# Altium footprint library CDH_COMPONENTS_FOOTPRINTS.PcbLib: 15 footprints
Each footprint in its own frame and in the unit in brackets; x right, y up, seen from the top. Pads: shape width x height; smd on the part's side, far side on the other; paste and mask are expansions set on the pad; w line width, h text height; cw(c..) or ccw(c..) is an arc to the next point about the centre after c.
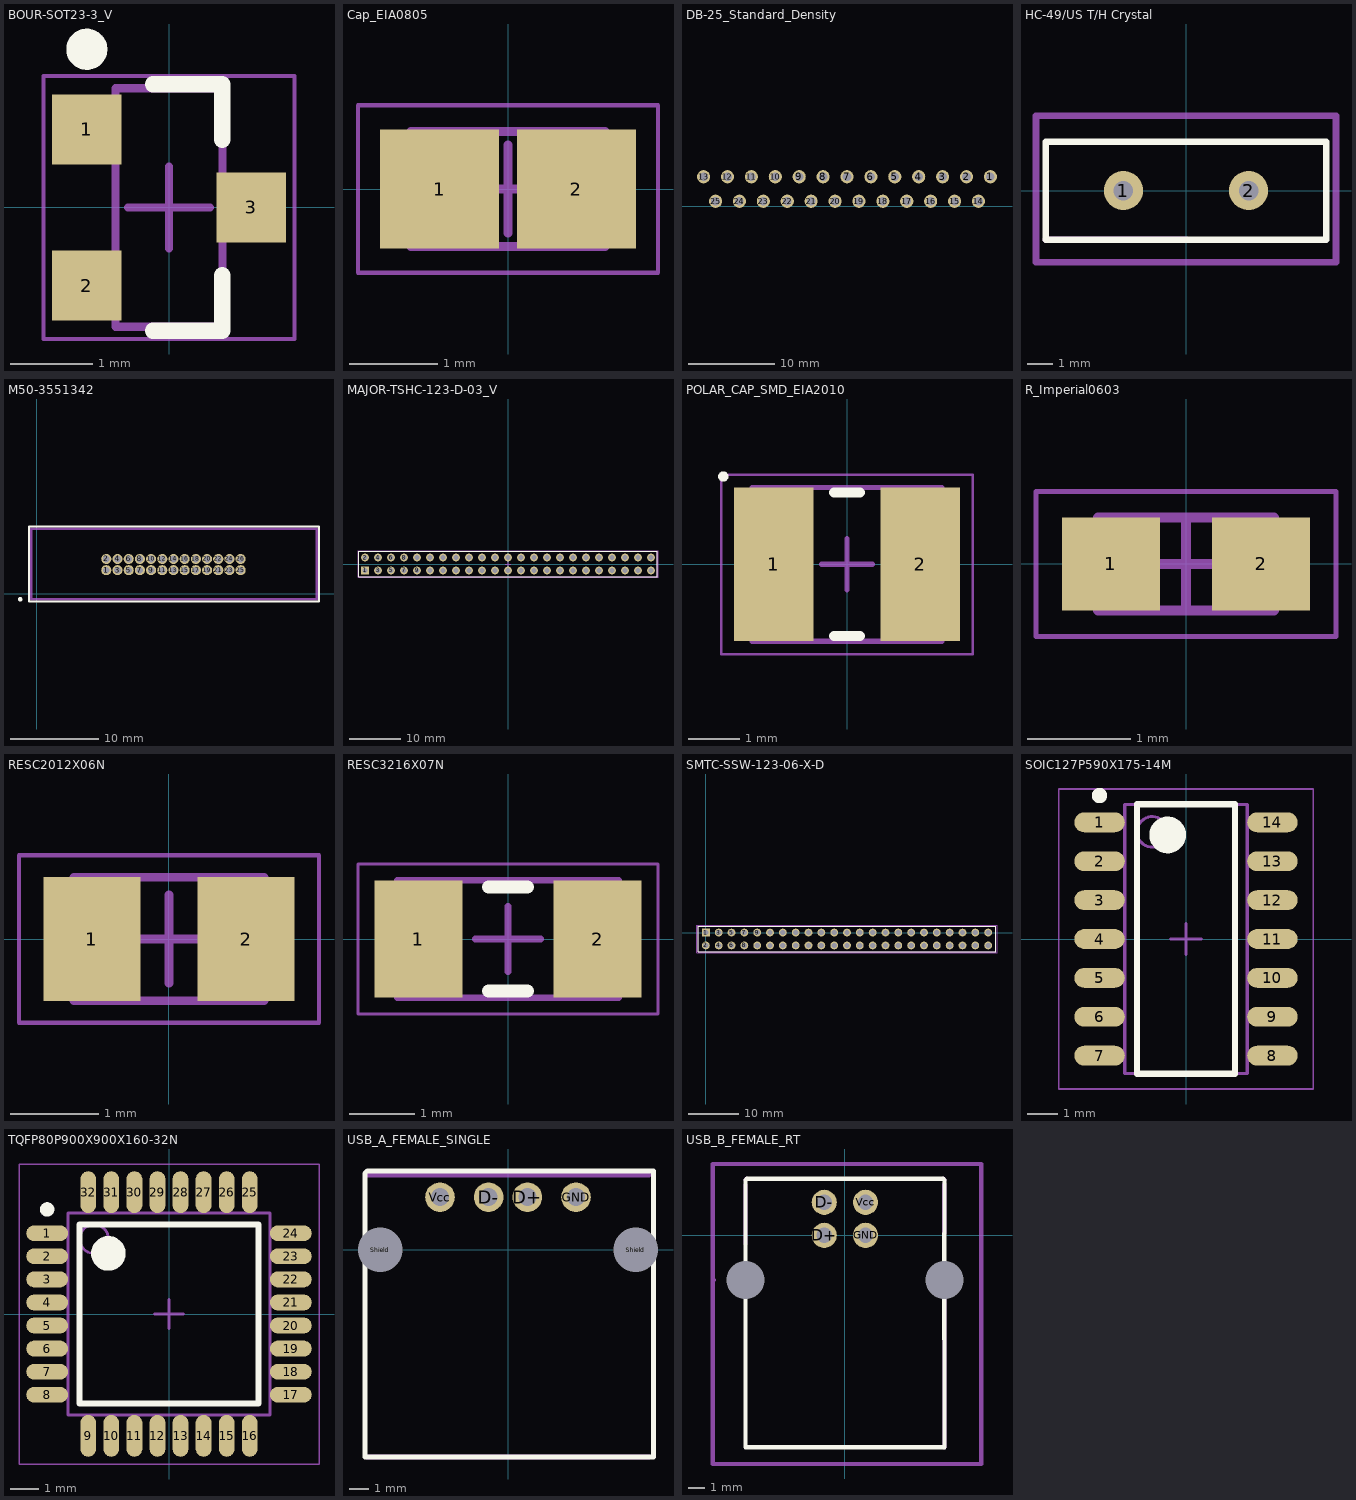
[diagram p0: the footprints below, top view; thin cyan lines are the x and y axes]

## BOUR-SOT23-3_V [mm] "SOT23, 3-Leads, Body 2.9x1.3mm, Pitch 0.95mm"
height 1.17
pads (3):
  rect 0.85x0.85 smd: 1(-1,0.95) 2(-1,-0.95) 3(1,0)
Top Overlay:
  circle w0.25: c-1,1.925 r0.125
  lines w0.2: -0.195,-1.5 0.65,-1.5 0.65,-0.825 ; -0.195,1.5 0.65,1.5 0.65,0.825
Dimensions:
  lines w0.1: -0.65,-1.45 0.65,-1.45 0.65,1.45 -0.65,1.45 -0.65,-1.45
Mechanical 15:
  lines w0.05: -1.525,-1.6 1.525,-1.6 1.525,1.6 -1.525,1.6 -1.525,-1.6
  lines w0.1: -0.5,0 0.5,0 ; 0,-0.5 0,0.5
3D body: height 1.17, standoff 0.02, extent -0.65,-1.45 0.65,1.45

## Cap_EIA0805 [mm] "Chip Capacitor, 2-Leads, Body 2.00x1.23mm, IPC Medium Density"
height 0.85
pads (2):
  rect 1.35x1.35 smd: 1(-0.775,0) 2(0.775,0)
Dimensions:
  lines w0.1: -1.1,-0.65 -1.1,0.65 1.1,0.65 1.1,-0.65 -1.1,-0.65
Mechanical 15:
  lines w0.05: -1.7,-0.95 -1.7,0.95 1.7,0.95 1.7,-0.95 -1.7,-0.95
  lines w0.1: -0.5,0 0.5,0 ; 0,-0.5 0,0.5
3D body: height 0.85, standoff 0, extent -0.6,-0.65 0.6,0.65
3D body: height 0.85, standoff 0, extent -1.1,-0.65 -0.6,0.65
3D body: height 0.85, standoff 0, extent 0.6,-0.65 1.1,0.65

## DB-25_Standard_Density [mm] "Right angle DB-25 standard density connector"
pads (25):
  round 1.524 hole 1: 1(43.14,3.42) 2(40.37,3.42) 3(37.6,3.42) 4(34.83,3.42) 5(32.06,3.42) 6(29.29,3.42) 7(26.52,3.42) 8(23.75,3.42) 9(20.98,3.42) 10(18.21,3.42) 11(15.44,3.42) 12(12.67,3.42) 13(9.9,3.42) 14(41.755,0.58) 15(38.985,0.58) 16(36.215,0.58) 17(33.445,0.58) 18(30.675,0.58) 19(27.905,0.58) 20(25.135,0.58) 21(22.365,0.58) 22(19.595,0.58) 23(16.825,0.58) 24(14.055,0.58) 25(11.285,0.58)

## HC-49/US T/H Crystal [mil]
height 144.88
pads (2):
  round 60 hole 30: 1(-96.06,0) 2(96.06,0)
Top Overlay:
  lines w10: -215,-75 -215,75 215,75 215,-75 0,-75 -215,-75
Dimensions:
  lines w10: -215,-75 0,-75
Mechanical 15:
  lines w10: -230,-110 230,-110 230,115 -215,115 -230,115 -230,-110
3D body "Crystal_HC49-4H_Vertical.step": height 161.42, standoff -114.17, extent -217.52,-91.54 217.52,91.54

## M50-3551342 [mm] "EJT 13x2 socket"
pads (26):
  round 1.15 hole 0.75: 1(7.874,2.667) 2(7.874,3.937)
  round 1.15 hole 0.75 paste+0: 3(9.144,2.667) 4(9.144,3.937) 5(10.414,2.667) 6(10.414,3.937) 7(11.684,2.667) 8(11.684,3.937) 9(12.954,2.667) 10(12.954,3.937) 11(14.224,2.667) 12(14.224,3.937) 13(15.494,2.667) 14(15.494,3.937) 15(16.764,2.667) 16(16.764,3.937) 17(18.034,2.667) 18(18.034,3.937) 19(19.304,2.667) 20(19.304,3.937) 21(20.574,2.667) 22(20.574,3.937) 23(21.844,2.667) 24(21.844,3.937) 25(23.114,2.667) 26(23.114,3.937)
Top Overlay:
  circle w0.254: c-1.905,-0.635 r0.127
  lines w0.254: -0.889,-0.889 32.004,-0.889 32.004,7.62 -0.889,7.62 -0.889,-0.889
Mechanical 15:
  lines w0.254: -0.635,-0.635 31.75,-0.635 31.75,7.366 -0.635,7.366 -0.635,-0.635
3D body "m50-3551342_asm.stp": height 11.37, standoff -2.65, extent 0,0.01 30.99,6.68

## MAJOR-TSHC-123-D-03_V [mm] "CONN, 46-Leads, Body 58.42x5mm, Pitch 2.54mm"
height 6.22
pads (46):
  rect 1.55x1.55 hole 1.02 paste+0: 1(-27.94,-1.27)
  round 1.55 hole 1.02 paste+0: 2(-27.94,1.27) 3(-25.4,-1.27) 4(-25.4,1.27) 5(-22.86,-1.27) 6(-22.86,1.27) 7(-20.32,-1.27) 8(-20.32,1.27) 9(-17.78,-1.27) 10(-17.78,1.27) 11(-15.24,-1.27) 12(-15.24,1.27) 13(-12.7,-1.27) 14(-12.7,1.27) 15(-10.16,-1.27) 16(-10.16,1.27) 17(-7.62,-1.27) 18(-7.62,1.27) 19(-5.08,-1.27) 20(-5.08,1.27) 21(-2.54,-1.27) 22(-2.54,1.27) 23(0,-1.27) 24(0,1.27) 25(2.54,-1.27) 26(2.54,1.27) 27(5.08,-1.27) 28(5.08,1.27) 29(7.62,-1.27) 30(7.62,1.27) 31(10.16,-1.27) 32(10.16,1.27) 33(12.7,-1.27) 34(12.7,1.27) 35(15.24,-1.27) 36(15.24,1.27) 37(17.78,-1.27) 38(17.78,1.27) 39(20.32,-1.27) 40(20.32,1.27) 41(22.86,-1.27) 42(22.86,1.27) 43(25.4,-1.27) 44(25.4,1.27) 45(27.94,-1.27) 46(27.94,1.27)
Top Overlay:
  lines w0.2: -29.21,-2.5 -29.21,2.5 29.21,2.5 29.21,-2.5 -29.21,-2.5
Dimensions:
  lines w0.1: -29.21,-2.5 -29.21,2.5 29.21,2.5 29.21,-2.5 -29.21,-2.5
Mechanical 15:
  lines w0.05: -29.31,-2.6 29.31,-2.6 29.31,2.6 -29.31,2.6 -29.31,-2.6
  lines w0.1: -0.5,0 0.5,0 ; 0,-0.5 0,0.5
3D body: height 8.51, standoff -2.29, extent 27.62,0.95 28.26,1.59
3D body: height 8.51, standoff -2.29, extent 25.08,0.95 25.72,1.59
3D body: height 8.51, standoff -2.29, extent 22.54,0.95 23.18,1.59
3D body: height 8.51, standoff -2.29, extent 20,0.95 20.64,1.59
3D body: height 8.51, standoff -2.29, extent 17.46,0.95 18.1,1.59
3D body: height 8.51, standoff -2.29, extent 14.92,0.95 15.56,1.59
3D body: height 8.51, standoff -2.29, extent 12.38,0.95 13.02,1.59
3D body: height 8.51, standoff -2.29, extent 9.84,0.95 10.48,1.59
3D body: height 8.51, standoff -2.29, extent 7.3,0.95 7.94,1.59
3D body: height 8.51, standoff -2.29, extent 4.76,0.95 5.4,1.59
3D body: height 8.51, standoff -2.29, extent 2.22,0.95 2.86,1.59
3D body: height 8.51, standoff -2.29, extent -0.32,0.95 0.32,1.59
3D body: height 8.51, standoff -2.29, extent -2.86,0.95 -2.22,1.59
3D body: height 8.51, standoff -2.29, extent -5.4,0.95 -4.76,1.59
3D body: height 8.51, standoff -2.29, extent -7.94,0.95 -7.3,1.59
3D body: height 8.51, standoff -2.29, extent -10.48,0.95 -9.84,1.59
3D body: height 8.51, standoff -2.29, extent -13.02,0.95 -12.38,1.59
3D body: height 8.51, standoff -2.29, extent -15.56,0.95 -14.92,1.59
3D body: height 8.51, standoff -2.29, extent -18.1,0.95 -17.46,1.59
3D body: height 8.51, standoff -2.29, extent -20.64,0.95 -20,1.59
3D body: height 8.51, standoff -2.29, extent -23.18,0.95 -22.54,1.59
3D body: height 8.51, standoff -2.29, extent -25.72,0.95 -25.08,1.59
3D body: height 8.51, standoff -2.29, extent 27.62,-1.59 28.26,-0.95
3D body: height 8.51, standoff -2.29, extent 25.08,-1.59 25.72,-0.95
3D body: height 8.51, standoff -2.29, extent 22.54,-1.59 23.18,-0.95
3D body: height 8.51, standoff -2.29, extent 20,-1.59 20.64,-0.95
3D body: height 8.51, standoff -2.29, extent 17.46,-1.59 18.1,-0.95
3D body: height 8.51, standoff -2.29, extent 14.92,-1.59 15.56,-0.95
3D body: height 8.51, standoff -2.29, extent 12.38,-1.59 13.02,-0.95
3D body: height 8.51, standoff -2.29, extent 9.84,-1.59 10.48,-0.95
3D body: height 8.51, standoff -2.29, extent 7.3,-1.59 7.94,-0.95
3D body: height 8.51, standoff -2.29, extent 4.76,-1.59 5.4,-0.95
3D body: height 8.51, standoff -2.29, extent 2.22,-1.59 2.86,-0.95
3D body: height 8.51, standoff -2.29, extent -0.32,-1.59 0.32,-0.95
3D body: height 8.51, standoff -2.29, extent -2.86,-1.59 -2.22,-0.95
3D body: height 8.51, standoff -2.29, extent -5.4,-1.59 -4.76,-0.95
3D body: height 8.51, standoff -2.29, extent -7.94,-1.59 -7.3,-0.95
3D body: height 8.51, standoff -2.29, extent -10.48,-1.59 -9.84,-0.95
3D body: height 8.51, standoff -2.29, extent -13.02,-1.59 -12.38,-0.95
3D body: height 8.51, standoff -2.29, extent -15.56,-1.59 -14.92,-0.95
3D body: height 8.51, standoff -2.29, extent -18.1,-1.59 -17.46,-0.95
3D body: height 8.51, standoff -2.29, extent -20.64,-1.59 -20,-0.95
3D body: height 8.51, standoff -2.29, extent -23.18,-1.59 -22.54,-0.95
3D body: height 8.51, standoff -2.29, extent -25.72,-1.59 -25.08,-0.95
3D body: height 8.51, standoff -2.29, extent -28.26,-1.59 -27.62,-0.95
3D body: height 8.51, standoff -2.29, extent -28.26,0.95 -27.62,1.59
3D body: height 2.54, standoff 0, extent -29.21,-2.5 29.21,2.5

## POLAR_CAP_SMD_EIA2010 [mm] "Polarized SMT capacitor, Imperial 2010 footprint"
height 1.1
pads (2):
  rect 1.55x3 smd: 1(-1.425,0) 2(1.425,0)
Top Overlay:
  circle w0.1: c-2.412,1.712 r0.05
  lines w0.2: -0.25,-1.4 0.25,-1.4 ; -0.25,1.4 0.25,1.4
Dimensions:
  lines w0.1: -1.85,-1.5 -1.85,1.5 1.85,1.5 1.85,-1.5 -1.85,-1.5
Mechanical 15:
  lines w0.05: -2.45,-1.75 -2.45,1.75 2.45,1.75 2.45,-1.75 -2.45,-1.75
  lines w0.1: -0.5,0 0.5,0 ; 0,-0.5 0,0.5
3D body "POLAR_CAP_SMD_EIA2010.step": height 1.1, standoff 0, extent -1.85,-1.5 1.85,1.5

## R_Imperial0603 [mm] "Imperial 0603 resistor footprint"
height 0.55
pads (2):
  rect 0.95x0.9 smd: 1(-0.725,0) 2(0.725,0)
Dimensions:
  lines w0.1: -0.85,-0.45 -0.85,0.45 0.85,0.45 0.85,-0.45 -0.85,-0.45
Mechanical 15:
  lines w0.05: -1.45,-0.7 -1.45,0.7 1.45,0.7 1.45,-0.7 -1.45,-0.7
  lines w0.1: -0.45,0 0.45,0 ; 0,-0.45 0,0.45
3D body "R_Imperial0603.step": height 0.55, standoff 0, extent -0.85,-0.45 0.85,0.45

## RESC2012X06N [mm] "Chip Resistor, 2-Leads, Body 2.00x1.25mm, IPC Medium Density"
height 0.6
pads (2):
  rect 1.1x1.4 smd: 1(-0.875,0) 2(0.875,0)
Dimensions:
  lines w0.1: -1.075,-0.7 -1.075,0.7 1.075,0.7 1.075,-0.7 -1.075,-0.7
Mechanical 15:
  lines w0.05: -1.7,-0.95 -1.7,0.95 1.7,0.95 1.7,-0.95 -1.7,-0.95
  lines w0.1: -0.5,0 0.5,0 ; 0,-0.5 0,0.5
3D body "RESC2012X06N.step": height 0.6, standoff 0, extent -1.075,-0.7 1.075,0.7

## RESC3216X07N [mm] "Chip Resistor, 2-Leads, Body 3.20x1.60mm, IPC Medium Density"
height 0.7
pads (2):
  rect 1.35x1.8 smd: 1(-1.375,0) 2(1.375,0)
Top Overlay:
  lines w0.2: -0.3,-0.8 0.3,-0.8 ; -0.3,0.8 0.3,0.8
Dimensions:
  lines w0.1: -1.7,-0.9 1.7,-0.9 1.7,0.9 -1.7,0.9 -1.7,-0.9
Mechanical 15:
  lines w0.05: -2.3,-1.15 2.3,-1.15 2.3,1.15 -2.3,1.15 -2.3,-1.15
  lines w0.1: -0.5,0 0.5,0 ; 0,-0.5 0,0.5
3D body "RESC3216X07N.step": height 0.7, standoff 0, extent -1.7,-0.9 1.7,0.9

## SMTC-SSW-123-06-X-D [mm] "SQ Post Socket, 2x23 Pins, Vertical, 2.54mm Pitch, Female"
height 8.51
pads (46):
  rect 1.55x1.55 hole 1.04: 1(0,0)
  round 1.55 hole 1.04: 2(0,-2.54) 3(2.54,0) 4(2.54,-2.54) 5(5.08,0) 6(5.08,-2.54) 7(7.62,0) 8(7.62,-2.54) 9(10.16,0) 10(10.16,-2.54) 11(12.7,0) 12(12.7,-2.54) 13(15.24,0) 14(15.24,-2.54) 15(17.78,0) 16(17.78,-2.54) 17(20.32,0) 18(20.32,-2.54) 19(22.86,0) 20(22.86,-2.54) 21(25.4,0) 22(25.4,-2.54) 23(27.94,0) 24(27.94,-2.54) 25(30.48,0) 26(30.48,-2.54) 27(33.02,0) 28(33.02,-2.54) 29(35.56,0) 30(35.56,-2.54) 31(38.1,0) 32(38.1,-2.54) 33(40.64,0) 34(40.64,-2.54) 35(43.18,0) 36(43.18,-2.54) 37(45.72,0) 38(45.72,-2.54) 39(48.26,0) 40(48.26,-2.54) 41(50.8,0) 42(50.8,-2.54) 43(53.34,0) 44(53.34,-2.54) 45(55.88,0) 46(55.88,-2.54)
Top Overlay:
  lines w0.2: -1.525,-3.745 57.405,-3.745 57.405,1.205 -1.525,1.205 -1.525,-3.745
Dimensions:
  lines w0.1: -1.525,-3.745 57.405,-3.745 57.405,1.205 -1.525,1.205 -1.525,-3.745
Mechanical 15:
  lines w0.05: -1.75,-3.97 57.63,-3.97 57.63,1.43 -1.75,1.43 -1.75,-3.97
3D body "SSW-123-06-X-D.step": height 8.51, standoff -3.15, extent -1.524,-3.746 57.404,1.207

## SOIC127P590X175-14M [mm] "SOIC, 14-Leads, Body 8.65x3.90mm, Pitch 1.27mm, IPC Low Density"
height 1.75
pads (14):
  oval 1.65x0.65 smd: 1(-2.825,3.81) 2(-2.825,2.54) 3(-2.825,1.27) 4(-2.825,0) 5(-2.825,-1.27) 6(-2.825,-2.54) 7(-2.825,-3.81) 8(2.825,-3.81) 9(2.825,-2.54) 10(2.825,-1.27) 11(2.825,0) 12(2.825,1.27) 13(2.825,2.54) 14(2.825,3.81)
Top Overlay:
  circle w0.25: c-2.825,4.685 r0.125
  circle w0.6: c-0.6,3.4 r0.3
  lines w0.2: -1.6,-4.4 -1.6,4.4 1.6,4.4 1.6,-4.4 -1.6,-4.4
Dimensions:
  circle w0.1: c-1.1,3.5 r0.5
  lines w0.1: -2,-4.4 -2,4.4 2,4.4 2,-4.4 -2,-4.4
Mechanical 15:
  lines w0.05: -4.15,-4.9 -4.15,4.9 4.15,4.9 4.15,-4.9 -4.15,-4.9
  lines w0.1: -0.5,0 0.5,0 ; 0,-0.5 0,0.5
3D body "SOIC127P590X175-14M.step": height 1.75, standoff 0, extent -2.95,-4.4 2.95,4.4

## TQFP80P900X900X160-32N [mm] "TQFP, 32-Leads, Body 7.00x7.00mm, Pitch 0.80mm, IPC Medium Density"
height 1.6
pads (32):
  oval 1.45x0.55 smd: 1(-4.225,2.8) 2(-4.225,2) 3(-4.225,1.2) 4(-4.225,0.4) 5(-4.225,-0.4) 6(-4.225,-1.2) 7(-4.225,-2) 8(-4.225,-2.8) 17(4.225,-2.8) 18(4.225,-2) 19(4.225,-1.2) 20(4.225,-0.4) 21(4.225,0.4) 22(4.225,1.2) 23(4.225,2) 24(4.225,2.8)
  oval 0.55x1.45 smd: 9(-2.8,-4.225) 10(-2,-4.225) 11(-1.2,-4.225) 12(-0.4,-4.225) 13(0.4,-4.225) 14(1.2,-4.225) 15(2,-4.225) 16(2.8,-4.225) 25(2.8,4.225) 26(2,4.225) 27(1.2,4.225) 28(0.4,4.225) 29(-0.4,4.225) 30(-1.2,4.225) 31(-2,4.225) 32(-2.8,4.225)
Top Overlay:
  circle w0.6: c-2.1,2.1 r0.3
  circle w0.25: c-4.225,3.625 r0.125
  lines w0.2: -3.1,-3.1 3.1,-3.1 3.1,3.1 -3.1,3.1 -3.1,-3.1
Dimensions:
  circle w0.1: c-2.6,2.6 r0.5
  lines w0.1: -3.5,-3.5 3.5,-3.5 3.5,3.5 -3.5,3.5 -3.5,-3.5
Mechanical 15:
  lines w0.05: -5.2,-5.2 5.2,-5.2 5.2,5.2 -5.2,5.2 -5.2,-5.2
  lines w0.1: -0.5,0 0.5,0 ; 0,-0.5 0,0.5
3D body "TQFP80P900X900X160-32N.step": height 1.6, standoff 0, extent -4.5,-4.5 4.5,4.5

## USB_A_FEMALE_SINGLE [mm] "A horizontally oriented, USB type A receptacle."
pads (6):
  round 1.524 hole 0.92: D+(1,2.71) D-(-1,2.71) GND(3.5,2.71) Vcc(-3.5,2.71)
  round 1.524 hole 2.3 paste+2 mask+0.202: Shield(-6.57,0)
  round 1.524 hole 2.3 mask+0.202: Shield(6.57,0)
Top Overlay:
  lines w0.254: -7.366,-10.668 7.493,-10.668 7.493,4.064 -7.239,4.064 -7.366,3.937 -7.366,-10.668
Mechanical 15:
  lines w0.254: -7.255,-10.668 7.255,-10.668 ; -7.255,3.85 7.255,3.85
3D body: height 7.12, standoff 0, extent -7.255,-10.668 7.255,3.85

## USB_B_FEMALE_RT [mm] "USB Type B female receptacle, right angle"
pads (6):
  round 1.524 hole 0.92: D+(-1.25,0) D-(-1.25,2) GND(1.25,0) Vcc(1.25,2)
  round 1.524 hole 2.3 mask+0.204: Shield(-6.025,-2.71) Shield(6.025,-2.71)
Top Overlay:
  lines w0.254: -6.02,3.353 -6.02,-12.827 6.025,-12.827 6.02,0.127 ; -5.944,3.429 5.954,3.429 ; 6.025,-2.71 6.025,3.358
Dimensions:
  lines w0.254: -6.02,-0.508 -6.02,3.048 ; -6.02,3.353 -5.944,3.429 ; 5.954,3.429 6.025,3.358 ; 6.02,0.127 6.02,3.092 ; 6.025,-12.827 6.025,-2.71
Mechanical 15:
  lines w0.254: -7.917,-2.71 -8.001,-2.626 ; -8.001,-2.626 -8.001,4.318 8.255,4.318 8.255,-13.462 8.255,-13.843 -8.001,-13.843 -8.001,-2.626
3D body: height 10.62, standoff 0, extent -6.02,-12.893 6.02,3.429
3D body: height 10.62, standoff -2.9, extent -7.239,-10.795 -7.239,-10.795